# Altium schematic symbol library IC_Texas_Instruments_BQ24075RGTT_eec.SchLib: 1 symbol
Pins are listed as number, name and electrical type; pins without a type are passive.

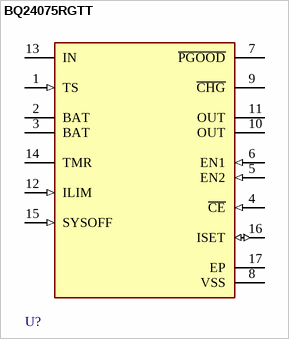
[diagram p0: symbol BQ24075RGTT]

## BQ24075RGTT
designator U?  (value not drawn)
pins: 1 TS (in), 2 BAT (power), 3 BAT (power), 4 ~{CE} (in), 5 EN2 (in), 6 EN1 (in), 7 ~{PGOOD} (hiz), 8 VSS (power), 9 ~{CHG} (hiz), 10 OUT (power), 11 OUT (power), 12 ILIM (in), 13 IN (power), 14 TMR, 15 SYSOFF (in), 16 ISET (io), 17 EP (power)